# Altium footprint library HDC2010YPAR.PcbLib: 1 footprints
Each footprint in its own frame and in the unit in brackets; x right, y up, seen from the top. Pads: shape width x height; smd on the part's side, far side on the other; paste and mask are expansions set on the pad; w line width, h text height; cw(c..) or ccw(c..) is an arc to the next point about the centre after c.
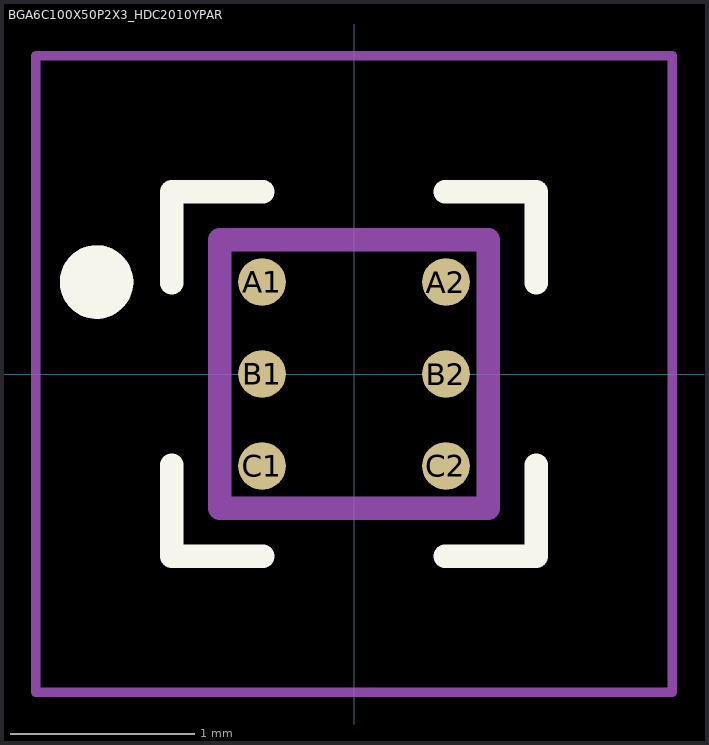
[diagram p0: the footprint, top view; thin cyan lines are the x and y axes]

## BGA6C100X50P2X3_HDC2010YPAR [mm]
pads (6):
  round 0.26 smd: A1(-0.5,0.5) A2(0.5,0.5) B1(-0.5,0) B2(0.5,0) C1(-0.5,-0.5) C2(0.5,-0.5)
Top Overlay:
  circle w0.2: c-1.4,0.5 r0.1
  lines w0.127: -0.99,-0.495 -0.99,-0.99 -0.495,-0.99 ; -0.99,0.495 -0.99,0.99 -0.495,0.99 ; 0.495,-0.99 0.99,-0.99 0.99,-0.495 ; 0.495,0.99 0.99,0.99 0.99,0.495
Mechanical 13:
  circle w0.2: c-1.4,0.5 r0.1
  lines w0.127: -0.73,-0.73 -0.73,0.73 0.73,0.73 0.73,-0.73 -0.73,-0.73
Mechanical 15:
  lines w0.05: -1.73,-1.73 -1.73,1.73 1.73,1.73 1.73,-1.73 -1.73,-1.73